# Altium integrated library RC0402FR-7D100RL.IntLib: 1 symbol
Pins are listed as number, name and electrical type; pins without a type are passive.

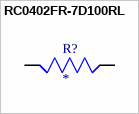
[diagram p0: symbol RC0402FR-7D100RL]

## RC0402FR-7D100RL
designator R?
RC Series 0402 62.5 mW 100 kOhms 1% Â±100 ppm/Â°C SMT Thick Film Chip Resistor; MP: RC0402FR-7D100RL; Package: None; Price: None; Value: *; Availability: Unavailable
footprint RESC1005X40
pins: 1, 2